# EAGLE library part TCMT4106 (library strasys_standard)
4 - Kanal Optokoppler Gehäuse: SOT-16
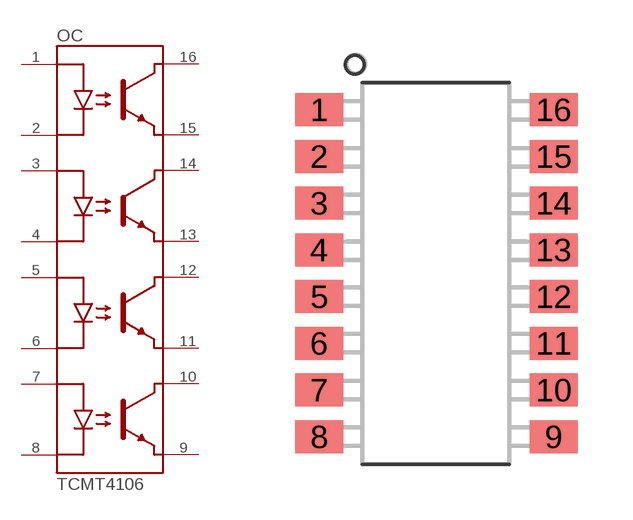
[diagram p12: symbol with the pads of SOP-16; footprint SOP-16]

Designator prefix OC

## TCMT4106 (MANUFACTURER: Vishay; MPN: TMCT4106; PACKAGE: SOT-16)  [SOP-16]
1  1
2  2
3  3
4  4
5  5
6  6
7  7
8  8
9  9
10  10
11  11
12  12
13  13
14  14
15  15
16  16

## Footprint SOP-16 (pad centres in mm)
smd 1.3 x 0.9: 1 -3.201,4.423; 2 -3.201,3.153; 3 -3.201,1.883; 4 -3.201,0.613; 5 -3.201,-0.657; 6 -3.201,-1.927; 7 -3.201,-3.197; 8 -3.201,-4.467; 9 3.169,-4.467; 10 3.169,-3.197; 11 3.169,-1.927; 12 3.169,-0.657; 13 3.169,0.613; 14 3.169,1.883; 15 3.169,3.153; 16 3.169,4.423